# Altium footprint library VEML6040A3OG.PcbLib: 1 footprints
Each footprint in its own frame and in the unit in brackets; x right, y up, seen from the top. Pads: shape width x height; smd on the part's side, far side on the other; paste and mask are expansions set on the pad; w line width, h text height; cw(c..) or ccw(c..) is an arc to the next point about the centre after c.
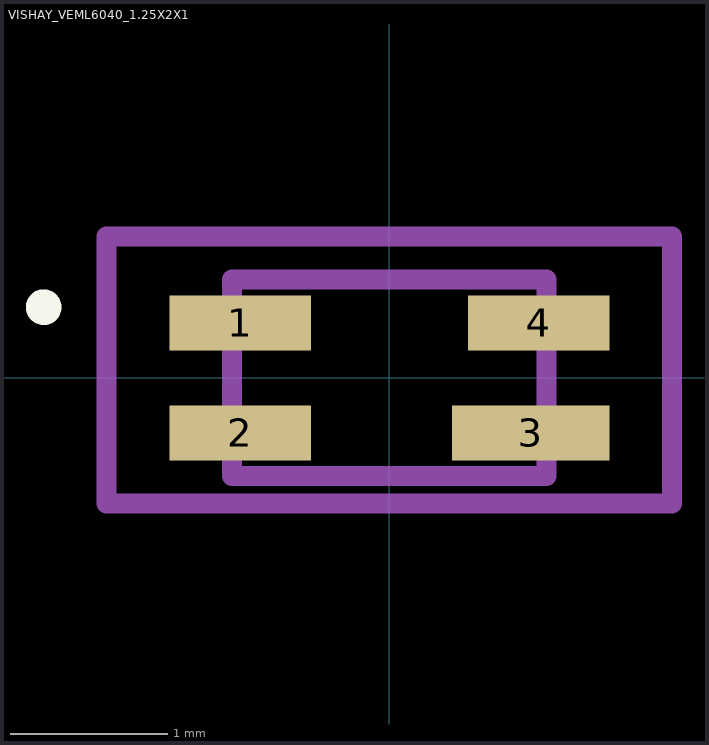
[diagram p0: the footprint, top view; thin cyan lines are the x and y axes]

## VISHAY_VEML6040_1.25X2X1 [mm]
pads (4):
  rect 0.9x0.35 smd: 1(-0.95,0.35) 2(-0.95,-0.35) 4(0.95,0.35)
  rect 1x0.35 smd: 3(0.9,-0.35)
Top Overlay:
  circle w0.127: c-2.2,0.45 r0.05
Mechanical 13:
  lines w0.127: -1,-0.625 -1,0.625 1,0.625 1,-0.625 -1,-0.625
Mechanical 15:
  lines w0.127: -1.8,-0.8 -1.8,0.9 1.8,0.9 1.8,-0.8 -1.8,-0.8